# Altium footprint library Passive.PcbLib: 91 footprints (part 2 of 6)
Each footprint in its own frame and in the unit in brackets; x right, y up, seen from the top. Pads: shape width x height; smd on the part's side, far side on the other; paste and mask are expansions set on the pad; w line width, h text height; cw(c..) or ccw(c..) is an arc to the next point about the centre after c.
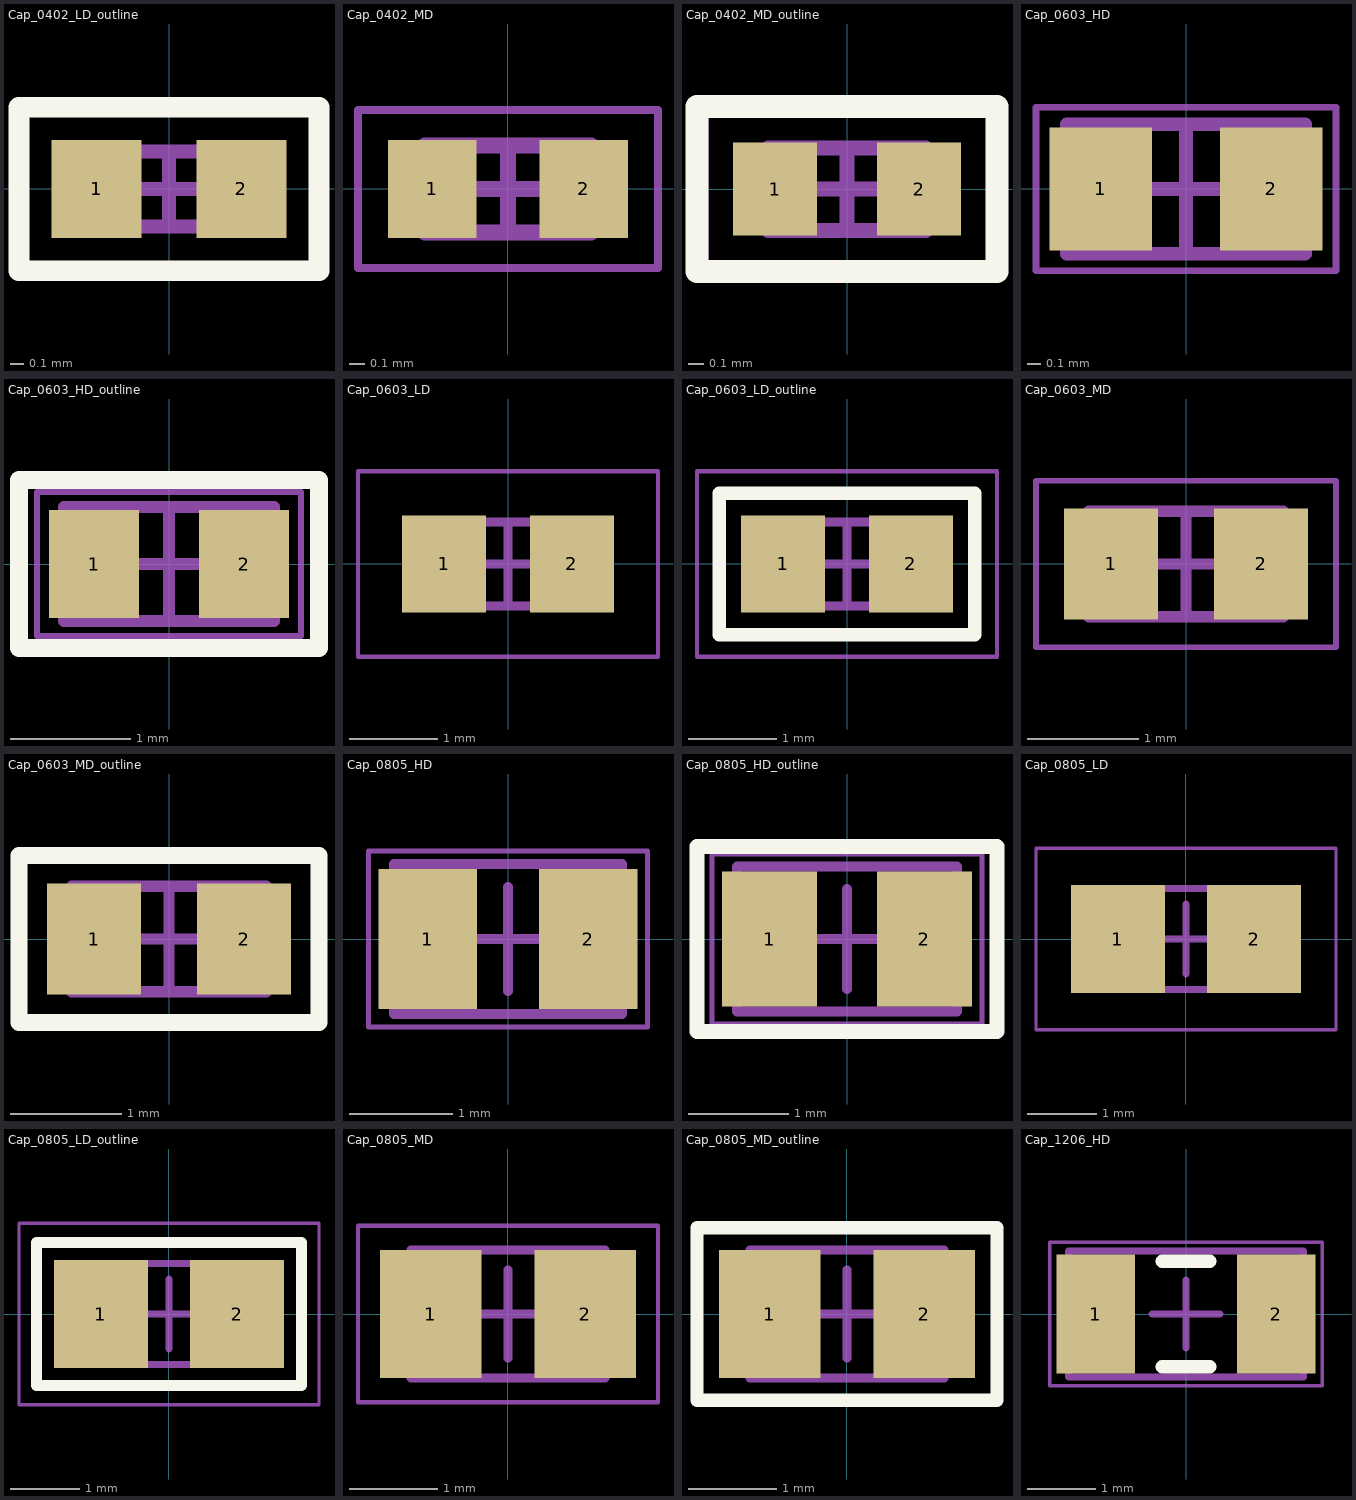
[diagram p1: the footprints below, top view; thin cyan lines are the x and y axes]

## Cap_0402_LD_outline [mm] "Chip Capacitor, 0402, IPC Low Density with outline"
height 0.61
pads (2):
  rect 0.66x0.72 smd: 1(-0.53,0) 2(0.53,0)
Top Overlay:
  lines w0.152: -1.1,-0.6 1.1,-0.6 1.1,0.6 -1.1,0.6 -1.1,-0.6
Mechanical 13:
  lines w0.1: -0.525,-0.275 0.525,-0.275 0.525,0.275 -0.525,0.275 -0.525,-0.275
Mechanical 15:
  lines w0.05: -1.1,-0.6 1.1,-0.6 1.1,0.6 -1.1,0.6 -1.1,-0.6
  lines w0.1: -0.275,0 0.275,0 ; 0,-0.275 0,0.275
3D body "CAPC1005X06M.step": height 0.61, standoff 0, extent -0.525,-0.275 0.525,0.275

## Cap_0402_MD [mm] "Chip Capacitor, 0402, IPC Medium Density"
height 0.61
pads (2):
  rect 0.56x0.62 smd: 1(-0.48,0) 2(0.48,0)
Mechanical 13:
  lines w0.1: -0.525,-0.275 0.525,-0.275 0.525,0.275 -0.525,0.275 -0.525,-0.275
Mechanical 15:
  lines w0.05: -0.95,-0.5 0.95,-0.5 0.95,0.5 -0.95,0.5 -0.95,-0.5
  lines w0.1: -0.275,0 0.275,0 ; 0,-0.275 0,0.275
3D body "CAPC1005X06N.step": height 0.61, standoff 0, extent -0.525,-0.275 0.525,0.275

## Cap_0402_MD_outline [mm] "Chip Capacitor, 0402, IPC Medium Density with outline"
height 0.61
pads (2):
  rect 0.56x0.62 smd: 1(-0.48,0) 2(0.48,0)
Top Overlay:
  lines w0.152: -1,-0.55 1,-0.55 1,0.55 -1,0.55 -1,-0.55
Mechanical 13:
  lines w0.1: -0.525,-0.275 -0.525,0.275 0.525,0.275 0.525,-0.275 -0.525,-0.275
Mechanical 15:
  lines w0.05: -0.95,-0.5 -0.95,0.5 0.95,0.5 0.95,-0.5 -0.95,-0.5
  lines w0.1: -0.275,0 0.275,0 ; 0,-0.275 0,0.275
3D body "CAPC1005X06N.step": height 0.61, standoff 0, extent -0.525,-0.275 0.525,0.275

## Cap_0603_HD [mm] "Chip Capacitor, 0603, IPC High Density"
height 0.92
pads (2):
  rect 0.75x0.9 smd: 1(-0.625,0) 2(0.625,0)
Mechanical 13:
  lines w0.1: -0.875,-0.475 0.875,-0.475 0.875,0.475 -0.875,0.475 -0.875,-0.475
Mechanical 15:
  lines w0.05: -1.1,-0.6 1.1,-0.6 1.1,0.6 -1.1,0.6 -1.1,-0.6
  lines w0.1: -0.475,0 0.475,0 ; 0,-0.475 0,0.475
3D body "CAPC1608X09L.step": height 0.92, standoff 0, extent -0.875,-0.475 0.875,0.475

## Cap_0603_HD_outline [mm] "Chip Capacitor, 0603, IPC High Density with outline"
height 0.92
pads (2):
  rect 0.75x0.9 smd: 1(-0.625,0) 2(0.625,0)
Top Overlay:
  lines w0.152: -1.25,-0.7 1.25,-0.7 1.25,0.7 -1.25,0.7 -1.25,-0.7
Mechanical 13:
  lines w0.1: -0.875,-0.475 -0.875,0.475 0.875,0.475 0.875,-0.475 -0.875,-0.475
Mechanical 15:
  lines w0.05: -1.1,-0.6 -1.1,0.6 1.1,0.6 1.1,-0.6 -1.1,-0.6
  lines w0.1: -0.475,0 0.475,0 ; 0,-0.475 0,0.475
3D body "CAPC1608X09L.step": height 0.92, standoff 0, extent -0.875,-0.475 0.875,0.475

## Cap_0603_LD [mm] "Chip Capacitor, 0603, IPC Low Density"
height 0.92
pads (2):
  rect 0.95x1.1 smd: 1(-0.725,0) 2(0.725,0)
Mechanical 13:
  lines w0.1: -0.875,-0.475 -0.875,0.475 0.875,0.475 0.875,-0.475 -0.875,-0.475
Mechanical 15:
  lines w0.05: -1.7,-1.05 -1.7,1.05 1.7,1.05 1.7,-1.05 -1.7,-1.05
  lines w0.1: -0.475,0 0.475,0 ; 0,-0.475 0,0.475
3D body "CAPC1608X09M.step": height 0.92, standoff 0, extent -0.875,-0.475 0.875,0.475

## Cap_0603_LD_outline [mm] "Chip Capacitor, 0603, IPC Low Density with outline"
height 0.92
pads (2):
  rect 0.95x1.1 smd: 1(-0.725,0) 2(0.725,0)
Top Overlay:
  lines w0.152: -1.45,-0.8 -1.45,0.8 1.45,0.8 1.45,-0.8 -1.45,-0.8
Mechanical 13:
  lines w0.1: -0.875,-0.475 0.875,-0.475 0.875,0.475 -0.875,0.475 -0.875,-0.475
Mechanical 15:
  lines w0.05: -1.7,-1.05 1.7,-1.05 1.7,1.05 -1.7,1.05 -1.7,-1.05
  lines w0.1: -0.475,0 0.475,0 ; 0,-0.475 0,0.475
3D body "CAPC1608X09M.step": height 0.92, standoff 0, extent -0.875,-0.475 0.875,0.475

## Cap_0603_MD [mm] "Chip Capacitor, 0603, IPC Medium Density"
height 0.92
pads (2):
  rect 0.85x1 smd: 1(-0.675,0) 2(0.675,0)
Mechanical 13:
  lines w0.1: -0.875,-0.475 -0.875,0.475 0.875,0.475 0.875,-0.475 -0.875,-0.475
Mechanical 15:
  lines w0.05: -1.35,-0.75 -1.35,0.75 1.35,0.75 1.35,-0.75 -1.35,-0.75
  lines w0.1: -0.475,0 0.475,0 ; 0,-0.475 0,0.475
3D body "CAPC1608X09N.step": height 0.92, standoff 0, extent -0.875,-0.475 0.875,0.475

## Cap_0603_MD_outline [mm] "Chip Capacitor, 0603, IPC Medium Density with outline"
height 0.92
pads (2):
  rect 0.85x1 smd: 1(-0.675,0) 2(0.675,0)
Top Overlay:
  lines w0.152: -1.35,-0.75 -1.35,0.75 1.35,0.75 1.35,-0.75 -1.35,-0.75
Mechanical 13:
  lines w0.1: -0.875,-0.475 0.875,-0.475 0.875,0.475 -0.875,0.475 -0.875,-0.475
Mechanical 15:
  lines w0.05: -1.35,-0.75 1.35,-0.75 1.35,0.75 -1.35,0.75 -1.35,-0.75
  lines w0.1: -0.475,0 0.475,0 ; 0,-0.475 0,0.475
3D body "CAPC1608X09N.step": height 0.92, standoff 0, extent -0.875,-0.475 0.875,0.475

## Cap_0805_HD [mm] "Chip Capacitor, 0805, IPC High Density"
height 1.45
pads (2):
  rect 0.95x1.35 smd: 1(-0.775,0) 2(0.775,0)
Mechanical 13:
  lines w0.1: -1.1,-0.725 1.1,-0.725 1.1,0.725 -1.1,0.725 -1.1,-0.725
Mechanical 15:
  lines w0.05: -1.35,-0.85 1.35,-0.85 1.35,0.85 -1.35,0.85 -1.35,-0.85
  lines w0.1: -0.5,0 0.5,0 ; 0,-0.5 0,0.5
3D body "CAPC2012X14L.step": height 1.45, standoff 0, extent -1.1,-0.725 1.1,0.725

## Cap_0805_HD_outline [mm] "Chip Capacitor, 0805, IPC High Density with outline"
height 1.45
pads (2):
  rect 0.95x1.35 smd: 1(-0.775,0) 2(0.775,0)
Top Overlay:
  lines w0.152: -1.5,-0.925 -1.5,0.925 1.5,0.925 1.5,-0.925 -1.5,-0.925
Mechanical 13:
  lines w0.1: -1.1,-0.725 1.1,-0.725 1.1,0.725 -1.1,0.725 -1.1,-0.725
Mechanical 15:
  lines w0.05: -1.35,-0.85 1.35,-0.85 1.35,0.85 -1.35,0.85 -1.35,-0.85
  lines w0.1: -0.5,0 0.5,0 ; 0,-0.5 0,0.5
3D body "CAPC2012X14L.step": height 1.45, standoff 0, extent -1.1,-0.725 1.1,0.725

## Cap_0805_LD [mm] "Chip Capacitor, 0805, IPC Low Density"
height 1.45
pads (2):
  rect 1.35x1.55 smd: 1(-0.975,0) 2(0.975,0)
Mechanical 13:
  lines w0.1: -1.1,-0.725 -1.1,0.725 1.1,0.725 1.1,-0.725 -1.1,-0.725
Mechanical 15:
  lines w0.05: -2.15,-1.3 -2.15,1.3 2.15,1.3 2.15,-1.3 -2.15,-1.3
  lines w0.1: -0.5,0 0.5,0 ; 0,-0.5 0,0.5
3D body "CAPC2012X14M.step": height 1.45, standoff 0, extent -1.1,-0.725 1.1,0.725

## Cap_0805_LD_outline [mm] "Chip Capacitor, 0805, IPC Low Density with outline"
height 1.45
pads (2):
  rect 1.35x1.55 smd: 1(-0.975,0) 2(0.975,0)
Top Overlay:
  lines w0.152: -1.9,-1.025 -1.9,1.025 1.9,1.025 1.9,-1.025 -1.9,-1.025
Mechanical 13:
  lines w0.1: -1.1,-0.725 -1.1,0.725 1.1,0.725 1.1,-0.725 -1.1,-0.725
Mechanical 15:
  lines w0.05: -2.15,-1.3 -2.15,1.3 2.15,1.3 2.15,-1.3 -2.15,-1.3
  lines w0.1: -0.5,0 0.5,0 ; 0,-0.5 0,0.5
3D body "CAPC2012X14M.step": height 1.45, standoff 0, extent -1.1,-0.725 1.1,0.725

## Cap_0805_MD [mm] "Chip Capacitor, 0805, IPC Medium Density"
height 1.45
pads (2):
  rect 1.15x1.45 smd: 1(-0.875,0) 2(0.875,0)
Mechanical 13:
  lines w0.1: -1.1,-0.725 -1.1,0.725 1.1,0.725 1.1,-0.725 -1.1,-0.725
Mechanical 15:
  lines w0.05: -1.7,-1 -1.7,1 1.7,1 1.7,-1 -1.7,-1
  lines w0.1: -0.5,0 0.5,0 ; 0,-0.5 0,0.5
3D body "CAPC2012X14N.step": height 1.45, standoff 0, extent -1.1,-0.725 1.1,0.725

## Cap_0805_MD_outline [mm] "Chip Capacitor, 0805, IPC Medium Density with outline"
height 1.45
pads (2):
  rect 1.15x1.45 smd: 1(-0.875,0) 2(0.875,0)
Top Overlay:
  lines w0.152: -1.7,-0.975 -1.7,0.975 1.7,0.975 1.7,-0.975 -1.7,-0.975
Mechanical 13:
  lines w0.1: -1.1,-0.725 1.1,-0.725 1.1,0.725 -1.1,0.725 -1.1,-0.725
Mechanical 15:
  lines w0.05: -1.7,-1 1.7,-1 1.7,1 -1.7,1 -1.7,-1
  lines w0.1: -0.5,0 0.5,0 ; 0,-0.5 0,0.5
3D body "CAPC2012X14N.step": height 1.45, standoff 0, extent -1.1,-0.725 1.1,0.725

## Cap_1206_HD [mm] "Chip Capacitor, 1206, IPC High Density"
height 1.7
pads (2):
  rect 1.15x1.75 smd: 1(-1.325,0) 2(1.325,0)
Top Overlay:
  lines w0.2: -0.35,-0.775 0.35,-0.775 ; -0.35,0.775 0.35,0.775
Mechanical 13:
  lines w0.1: -1.725,-0.925 1.725,-0.925 1.725,0.925 -1.725,0.925 -1.725,-0.925
Mechanical 15:
  lines w0.05: -2,-1.05 2,-1.05 2,1.05 -2,1.05 -2,-1.05
  lines w0.1: -0.5,0 0.5,0 ; 0,-0.5 0,0.5
3D body "CAPC3216X17L.step": height 1.7, standoff 0, extent -1.725,-0.925 1.725,0.925